# EAGLE library part FPC052002-10LT (library template)
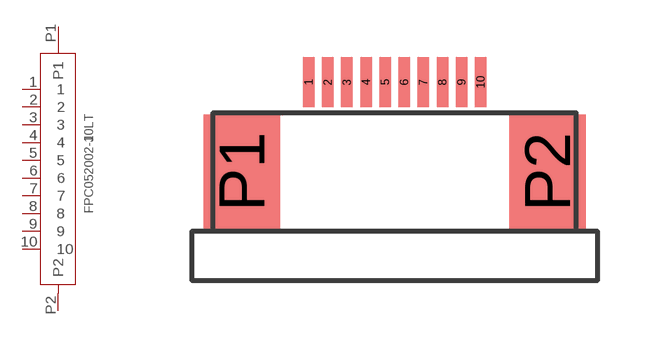
[diagram p20: symbol with the pads of 10P-0.5; footprint 10P-0.5]

Designator prefix J

## FPC052002-10LT  [10P-0.5]
1  1
2  2
3  3
4  4
5  5
6  6
7  7
8  8
9  9
10  10
P1  P1
P2  P2

## Footprint 10P-0.5 (pad centres in mm)
smd 0.3 x 1.3: 1 -2.25,2.35; 2 -1.75,2.35; 3 -1.25,2.35; 4 -0.75,2.35; 5 -0.25,2.35; 6 0.25,2.35; 7 0.75,2.35; 8 1.25,2.35; 9 1.75,2.35; 10 2.25,2.35
smd 2 x 3: P1 -4,0; P2 4,0